# Altium schematic symbol library Main.SchLib: 23 symbols
Pins are listed as number, name and electrical type; pins without a type are passive.

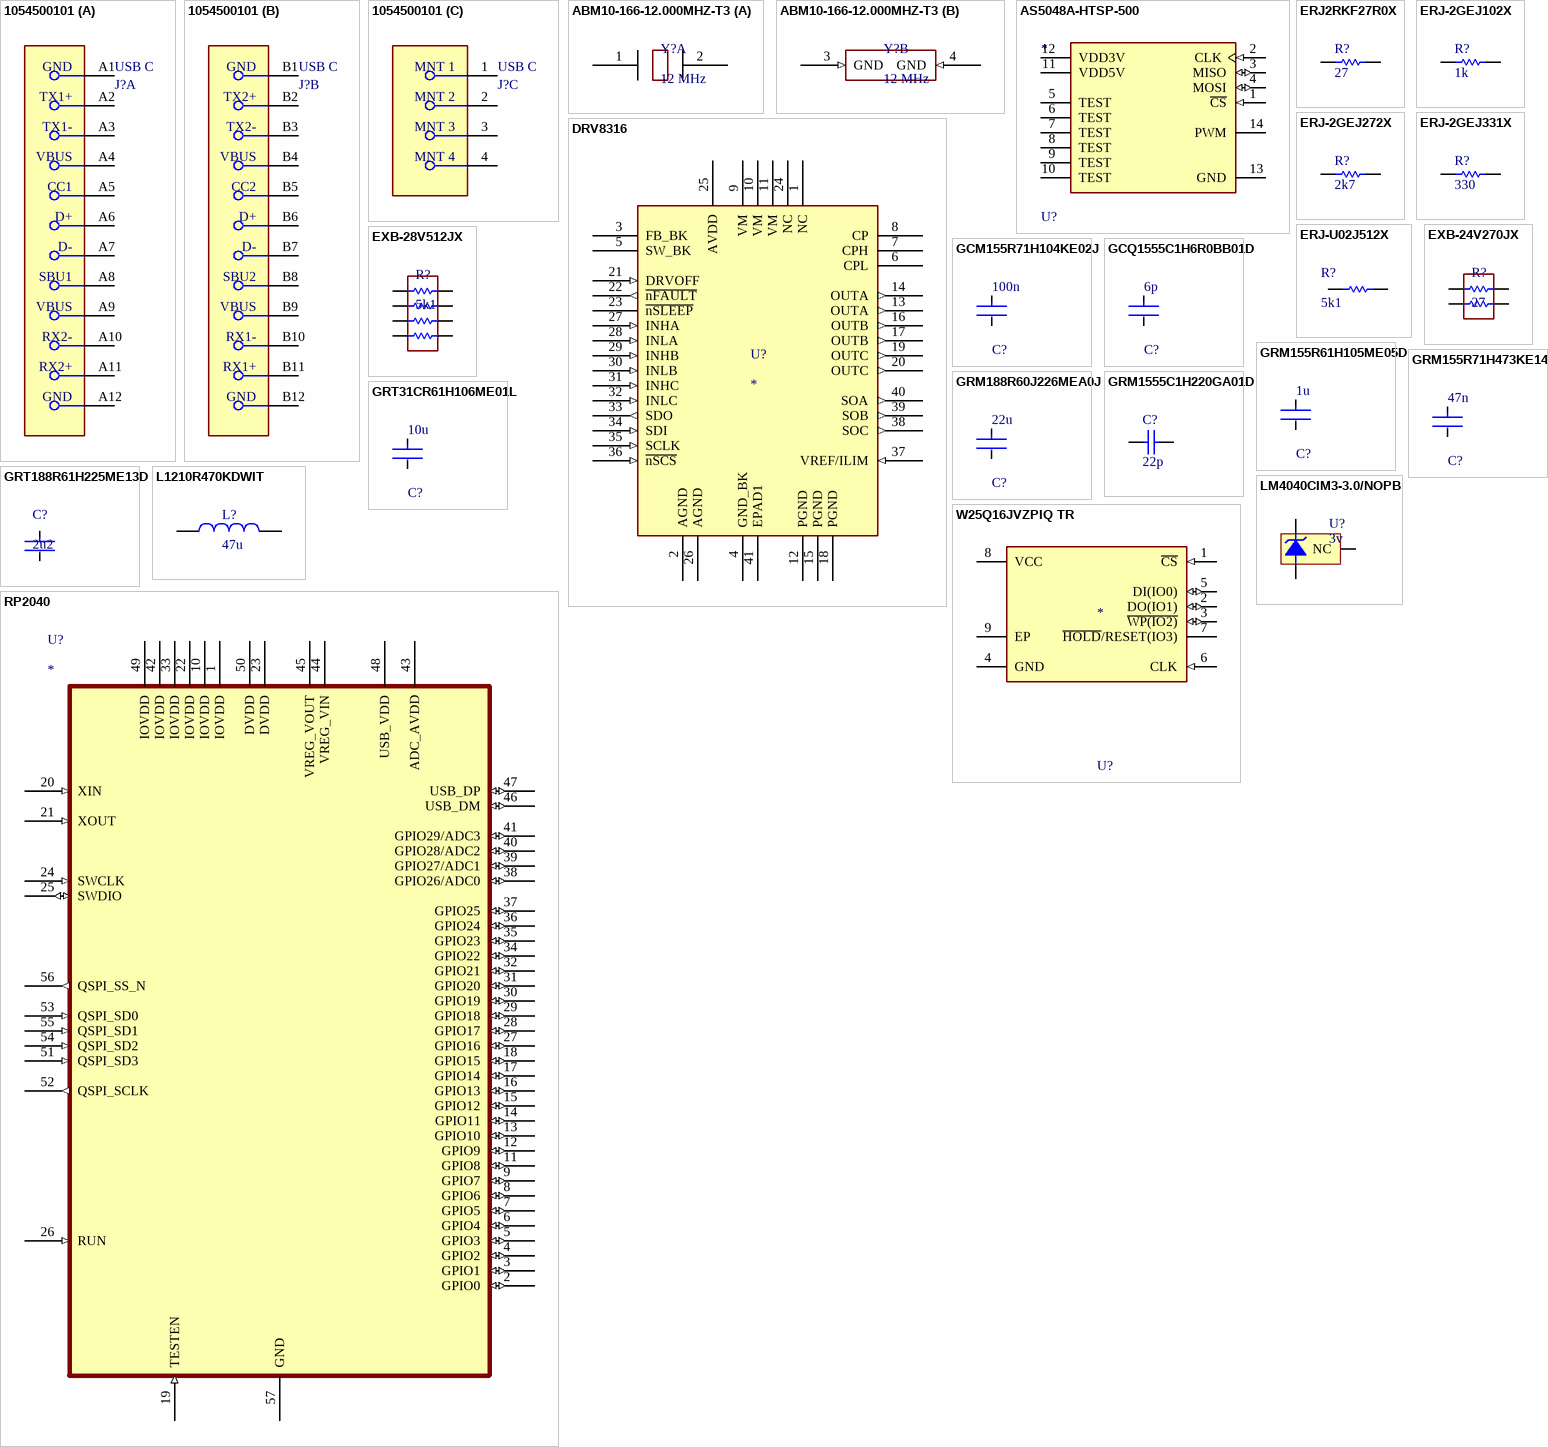
[diagram p0: symbols 1054500101 to W25Q16JVZPIQ TR]

## 1054500101
designator J?, comment USB C
CONN RCP USB3.1 TYPEC 24P SMD RA; Manufacturer: Molex; Manufacturer Part Number: 1054500101; Number Of Contacts: 24; Voltage Rating: 30V; Shielding: true; Is Female: yes; Current Rating: 0.25/1.25/5A; Pitch: 0.5mm; Conn Orientation: Right Angle; Package: 0; Height: 3.44mm; Footprint Url: https://www.molex.com/pdm_docs/sd/1054500101_sd.pdf; Device Class L1: Connectors; Category: Conn; Device Class L2: USB Connectors; Digikey Description: CONN RCP USB3.1 TYPEC 24P SMD RA; Contact Material: Gold,Nickel; Mouser Description: USB Shielded I/O Receptacle; Type C; Right Angle; Surface Mount; Gold over Nickel; ComponentLink2Description: Datasheet; Lead Free: Yes; Automotive: No; Temperature Range High: +85°C; RoHS: TRUE; Octopart: https://octopart.com/105450-0101-molex-68082325; ComponentLink2URL: https://www.molex.com/webdocs/datasheets/pdf/en-us/1054500101_IO_CONNECTORS.pdf; Temperature: -30°C to +85°C; Usb Standard: USB 3.1; Temperature Range Low: -30°C; Device Class L3: unset; Supplier 1: Digi-Key; Supplier Part Number 1: WM12856CT-ND
footprint FP-1054500101-MFG
part A pins: A1 GND, A2 TX1+, A3 TX1-, A4 VBUS, A5 CC1, A6 D+, A7 D-, A8 SBU1, A9 VBUS, A10 RX2-, A11 RX2+, A12 GND
part B pins: B1 GND, B2 TX2+, B3 TX2-, B4 VBUS, B5 CC2, B6 D+, B7 D-, B8 SBU2, B9 VBUS, B10 RX1-, B11 RX1+, B12 GND
part C pins: 1 MNT 1, 2 MNT 2, 3 MNT 3, 4 MNT 4

## ABM10-166-12.000MHZ-T3
designator Y?, comment 12 MHz
Supplier 1: Newark; Supplier Part Number 1: 51AC8104
part A pins: 1, 2
part B pins: 3 GND (in), 4 GND (in)

## AS5048A-HTSP-500
designator U?
SENSOR ANGLE 360DEG SMD; Operating Supply Current: 15mA; Min Supply Voltage: 4.5V; Max Supply Voltage: 5.5V; Resolution: 14b; Sensing Method: Hall Effect; Max Operating Temperature: 150°C; Case/Package: TSSOP; Termination: SMD/SMT; Lead Free: Lead Free; Mount: Surface Mount; Package Quantity: 500; Min Operating Temperature: -40°C; Packaging: Tape and Reel; Supplier 1: Mouser; Supplier Part Number 1: 985-AS5048A-HTSP-500
footprint TSOP65P640X120-14L (TSOP, 14-Leads, Body 5.00x4.40mm, Pitch 0.65mm, IPC High Density)
pins: 1 ~{CS} (in), 2 CLK (in), 3 MISO (io), 4 MOSI (io), 5 TEST, 6 TEST, 7 TEST, 8 TEST, 9 TEST, 10 TEST, 11 VDD5V (power), 12 VDD3V (power), 13 GND (power), 14 PWM

## DRV8316
designator U?
footprint QFN50P500X700X100_HS-41L (QFN, 40-Leads, Body 5.00x7.00mm, Pitch 0.50mm, Thermal Pad 3.70x5.70mm, IPC High Density)
pins: 1 NC, 2 AGND (power), 3 FB_BK (power), 4 GND_BK (power), 5 SW_BK, 6 CPL (power), 7 CPH (power), 8 CP (power), 9 VM (power), 10 VM (power), 11 VM (power), 12 PGND (power), 13 OUTA (out), 14 OUTA (out), 15 PGND (power), 16 OUTB (out), 17 OUTB (out), 18 PGND (power), 19 OUTC (out), 20 OUTC (out), 21 DRVOFF (in), 22 ~{nFAULT} (out), 23 ~{nSLEEP}, 24 NC, 25 AVDD (power), 26 AGND (power), 27 INHA (in), 28 INLA (in), 29 INHB (in), 30 INLB (in), 31 INHC (in), 32 INLC (in), 33 SDO (out), 34 SDI (in), 35 SCLK (in), 36 ~{nSCS} (in), 37 VREF/ILIM (in), 38 SOC (out), 39 SOB (out), 40 SOA (out), 41 EPAD1 (power)

## ERJ2RKF27R0X
designator R?, comment 27
Manufacturer: Panasonic; Part Number: ERJ2RKF27R0X; Supplier 1: Newark; Supplier Part Number 1: 85Y8229
footprint RESC1005X04N (Chip Resistor, 2-Leads, Body 1.00x0.50mm, IPC Medium Density)
pins: 1, 2
1 alternate drawing of the same symbol

## ERJ-2GEJ102X
designator R?, comment 1k
Manufacturer: Panasonic; Part Number: ERJ-2GEJ102X; Supplier 1: Newark; Supplier Part Number 1: 65T8247
footprint RESC1005X04N (Chip Resistor, 2-Leads, Body 1.00x0.50mm, IPC Medium Density)
pins: 1, 2
1 alternate drawing of the same symbol

## ERJ-2GEJ272X
designator R?, comment 2k7
Manufacturer: Panasonic; Part Number: ERJ-2GEJ331X; Supplier 1: Digi-Key; Supplier Part Number 1: P2.7KJCT-ND
footprint RESC1005X04N (Chip Resistor, 2-Leads, Body 1.00x0.50mm, IPC Medium Density)
pins: 1, 2
1 alternate drawing of the same symbol

## ERJ-2GEJ331X
designator R?, comment 330
Manufacturer: Panasonic; Part Number: ERJ-2GEJ331X; Supplier 1: Digi-Key; Supplier Part Number 1: P330JCT-ND
footprint RESC1005X04N (Chip Resistor, 2-Leads, Body 1.00x0.50mm, IPC Medium Density)
pins: 1, 2
1 alternate drawing of the same symbol

## ERJ-U02J512X
designator R?, comment 5k1
Supplier 1: Mouser; Supplier Part Number 1: 667-ERJ-U02J512X
footprint RESC1005X04N (Chip Resistor, 2-Leads, Body 1.00x0.50mm, IPC Medium Density)
pins: 1, 2

## EXB-24V270JX
designator R?, comment 27
Supplier 1: Digi-Key; Supplier Part Number 1: Y5270CT-ND
footprint CAC-65P100X100-4L (Chip Array, ConvexE, 4-Leads, Pitch 0.65mm,  Body 1.00x1.00mm,  IPC High Density)
pins: 1, 2, 3, 4

## EXB-28V512JX
designator R?, comment 5k1
Supplier 1: Digi-Key; Supplier Part Number 1: Y7512CT-ND
footprint CAC-50P200X100-8L (Chip Array, ConvexS, 8-Leads, Pitch 0.50mm,  Body 2.00x1.00mm,  IPC High Density)
pins: 1, 2, 3, 4, 5, 6, 7, 8

## GCM155R71H104KE02J
designator C?, comment 100n
Ceramic Capacitor for Automotive 100nF ±10% 50VDC X7R 0402 Paper T/R; Voltage Rating (DC): 50V; Case Code (Metric): 1005; Dielectric: X7R; Capacitance: 100nF; Packaging: Tape and Reel; Min Operating Temperature: -55°C; Length: 0.039inch; Thickness: 0.022inch; Height: 0.5mm; Mount: Surface Mount; Termination: SMD/SMT; Voltage Rating: 50V; Package Quantity: 50000; Width: 0.02inch; Case/Package: 0402; Case Code (Imperial): 0402; Ratings: AEC-Q200; Max Operating Temperature: 125°C; Tolerance: 10%; Weight: 0.000212oz; Supplier 1: Digi-Key; Supplier Part Number 1: 490-14514-1-ND
footprint FP-GCM155-0_05-MFG
pins: 1, 2

## GCQ1555C1H6R0BB01D
designator C?, comment 6p
High Q Ceramic Capacitor for Automotive 6pF ±0.1pF 50VDC C0G 0402 Paper T/R; Voltage Rating: 50V; Max Operating Temperature: 125°C; Capacitance: 6pF; Case Code (Imperial): 0402; Min Operating Temperature: -55°C; Case/Package: 0402; Mount: Surface Mount; Case Code (Metric): 1005; Ratings: AEC-Q200; Packaging: Tape and Reel; Supplier 1: Digi-Key; Supplier Part Number 1: 490-17493-1-ND
footprint FP-GCQ155-0_05-MFG
pins: 1, 2

## GRM155R61H105ME05D
designator C?, comment 1u
Chip Multilayer Ceramic Capacitors for General Purpose, 0402, 1.0uF, X5R, 15%, 20%, 50V; Supplier 1: Digi-Key; Supplier Part Number 1: 490-GRM155R61H105ME05DTR-ND
footprint FP-GRM155-0_1-MFG
pins: 1, 2

## GRM155R71H473KE14D
designator C?, comment 47n
Chip Multilayer Ceramic Capacitors for General Purpose, 0402, 47000pF, X7R, 15%, 10%, 50V; Capacitance: 47nF; Tolerance: 10%; Max Operating Temperature: 125°C; Termination: SMD/SMT; Width: 0.02inch; Package Quantity: 10000; Resistor Type: Ceramic; Packaging: Tape and Reel; Height: 0.5mm; Voltage Rating (DC): 50V; Length: 0.039inch; Dielectric: X7R; Case Code (Imperial): 0402; Voltage Rating: 50V; Mount: Surface Mount; Min Operating Temperature: -55°C; Case Code (Metric): 1005; Weight: 0.000212oz; Case/Package: 0402; Thickness: 0.022inch; Supplier 1: Digi-Key; Supplier Part Number 1: 490-10702-1-ND
footprint FP-GRM155-0_05-IPC_A
footprint FP-GRM155-0_05-IPC_C
footprint FP-GRM155-0_05-IPC_B
footprint FP-GRM155-0_05-MFG
pins: 1, 2

## GRM188R60J226MEA0J
designator C?, comment 22u
Chip Multilayer Ceramic Capacitors for General Purpose, 0603, 22uF, X5R, 15%, 20%, 6.3V; Capacitance: 22uF; Case Code (Metric): 1608; Thickness: 0.039inch; Dielectric: X5R; Voltage Rating: 6.3V; Termination: SMD/SMT; Voltage Rating (DC): 6.3V; Width: 0.031inch; Weight: 0.000222oz; Tolerance: 20%; Case/Package: 0603; Lead Free: Lead Free; Package Quantity: 10000; Case Code (Imperial): 0603; Length: 0.063inch; Packaging: Tape and Reel; Max Operating Temperature: 85°C; Min Operating Temperature: -55°C; Mount: Surface Mount; Supplier 1: Future Electronics; Supplier Part Number 1: 2075839
footprint FP-GRM188-0_2-IPC_C
pins: 1, 2

## GRM1555C1H220GA01D
designator C?, comment 22p
Manufacturer: Murata; Part Number: GRM1555C1H220GA01D; Supplier 1: Digi-Key; Supplier Part Number 1: 490-6219-1-ND
footprint CAPC1005X55X25LL05T10 (Chip Capacitor, 2-Leads, Body 1.00x0.50mm, IPC High Density)
footprint CAPC1005X55X25NL05T10 (Chip Capacitor, 2-Leads, Body 1.00x0.50mm, IPC Medium Density)
footprint CAPC1005X55X25ML05T10 (Chip Capacitor, 2-Leads, Body 1.00x0.50mm, IPC Low Density)
pins: 1, 2
1 alternate drawing of the same symbol

## GRT31CR61H106ME01L
designator C?, comment 10u
CAP CER 10UF 50V X5R 1206; Tolerance: 20%; Length: 0.126inch; Mount: Surface Mount; Packaging: Tape and Reel; Capacitance: 10uF; Case/Package: 1206; Case Code (Imperial): 1206; Max Operating Temperature: 85°C; Voltage Rating: 50V; Ratings: AEC-Q200; Min Operating Temperature: -55°C; Thickness: 0.071inch; Width: 0.063inch; Case Code (Metric): 3216; Supplier 1: Digi-Key; Supplier Part Number 1: 490-12457-1-ND
footprint FP-GRT31C-0_2-IPC_C
pins: 1, 2

## GRT188R61H225ME13D
designator C?, comment 2u2
Multilayer Ceramic Capacitors MLCC - SMD/SMT 0603 50Vdc 2.2uF X5R 20%; Supplier 1: Future Electronics; Supplier Part Number 1: 5087209
footprint CAPC1608X10N (Chip Capacitor, 2-Leads, Body 1.60x0.80mm, IPC Medium Density)
pins: 1, 2

## L1210R470KDWIT
designator L?, comment 47u
Supplier 1: Newark; Supplier Part Number 1: 50AC9370
footprint INDC3225X25N (Chip Inductor, 2-Leads, Body 3.20x2.50mm, IPC Medium Density)
pins: 1, 2

## LM4040CIM3-3.0/NOPB
designator U?, comment 3v
Precision Micropower Shunt Voltage Reference, 3-pin SOT-23, Pb-Free; Manufacturer: National Semiconductor; PackageTopMarking: RKC*XTT; CompType: Voltage Reference IC; PowerWise: N; PackageReference: MF03A; PinCount: 3; ComponentLink1Description: LM4040 Datasheet; DatasheetVersion: Apr-2005; ComponentLink3URL: http://www.national.com/packaging/folders/mf03a.html; ComponentLink2URL: http://www.national.com/pf/LM/LM4040.html; ComponentLink1URL: http://www.national.com/ds/LM/LM4040.pdf; PackageVersion: revB, Mar-2003; RoHS: Y; RevisionNote: Component URLs added; ComponentLink2Description: LM4040 Web Page; ComponentLink3Description: MF03A Package Page; PackageDescription: Molded SOT-23, .115 x .051 x .037in Body, 3 Lead, .075 in Pitch; Supplier 1: Digi-Key; Supplier Part Number 1: LM4040CIM3-3.0/NOPBCT-ND
footprint SOT95P237X112-3L (SOT23, 3-Leads, Body 2.92x2.37mm, Pitch 0.95mm, IPC High Density)
pins: 1 +V, 2 -V, 3 NC

## RP2040
designator U?
Supplier 1: Newark; Supplier Part Number 1: 49AJ8739
footprint QFN40P700X700X90_HS-57N (QFN, 56-Leads, Body 7.00x7.00mm, Pitch 0.40mm, Thermal Pad 3.10x3.10mm, IPC Medium Density)
pins: 1 IOVDD (power), 2 GPIO0 (io), 3 GPIO1 (io), 4 GPIO2 (io), 5 GPIO3 (io), 6 GPIO4 (io), 7 GPIO5 (io), 8 GPIO6 (io), 9 GPIO7 (io), 10 IOVDD (power), 11 GPIO8 (io), 12 GPIO9 (io), 13 GPIO10 (io), 14 GPIO11 (io), 15 GPIO12 (io), 16 GPIO13 (io), 17 GPIO14 (io), 18 GPIO15 (io), 19 TESTEN (in), 20 XIN (in), 21 XOUT (in), 22 IOVDD (power), 23 DVDD (power), 24 SWCLK (in), 25 SWDIO (io), 26 RUN (in), 27 GPIO16 (io), 28 GPIO17 (io), 29 GPIO18 (io), 30 GPIO19 (io), 31 GPIO20 (io), 32 GPIO21 (io), 33 IOVDD (power), 34 GPIO22 (io), 35 GPIO23 (io), 36 GPIO24 (io), 37 GPIO25 (io), 38 GPIO26/ADC0 (io), 39 GPIO27/ADC1 (io), 40 GPIO28/ADC2 (io), 41 GPIO29/ADC3 (io), 42 IOVDD (power), 43 ADC_AVDD (power), 44 VREG_VIN (power), 45 VREG_VOUT (power), 46 USB_DM (io), 47 USB_DP (io), 48 USB_VDD (power), 49 IOVDD (power), 50 DVDD (power), 51 QSPI_SD3 (in), 52 QSPI_SCLK (out), 53 QSPI_SD0 (in), 54 QSPI_SD2 (in), 55 QSPI_SD1 (in), 56 QSPI_SS_N (out), 57 GND (power)

## W25Q16JVZPIQ TR
designator U?
IC FLASH 16M SPI 133MHZ 8WSON; Memory Type: Non-Volatile; Memory Size: 16Mb; Max Operating Temperature: 85°C; Min Operating Temperature: -40°C; Frequency: 133MHz; Mount: Surface Mount; Packaging: Tape and Reel; Supplier 1: Digi-Key; Supplier Part Number 1: W25Q16JVZPIQCT-ND
footprint WSON-8
pins: 1 ~{CS} (in), 2 DO(IO1) (io), 3 ~{WP(IO2)} (io), 4 GND (power), 5 DI(IO0) (io), 6 CLK (in), 7 ~{HOLD}/RESET(IO3), 8 VCC (power), 9 EP